# EAGLE library part ADS794* (library ic-TI)
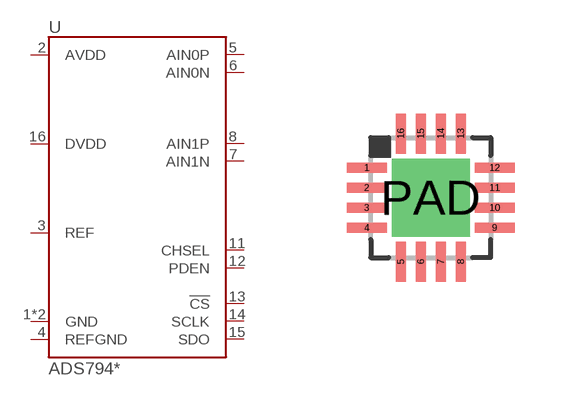
[diagram p48: symbol with the pads of QFN16-0.5; footprint QFN16-0.5]

Designator prefix U

## ADS7947 (RESOLUTION: 12), ADS7948 (RESOLUTION: 10), ADS7949 (RESOLUTION: 8)  [QFN16-0.5]
1  GND
2  AVDD
3  REF
4  REFGND
5  AIN0P
6  AIN0N
7  AIN1N
8  AIN1P
11  CHSEL
12  PDEN
13  !CS
14  SCLK
15  SDO
16  DVDD
PAD  GND

## Footprint QFN16-0.5 (pad centres in mm)
smd 1 x 0.25: 1 -1.6,0.75; 2 -1.6,0.25; 3 -1.6,-0.25; 4 -1.6,-0.75; 9 1.6,-0.75; 10 1.6,-0.25; 11 1.6,0.25; 12 1.6,0.75
smd 0.25 x 1: 5 -0.75,-1.6; 6 -0.25,-1.6; 7 0.25,-1.6; 8 0.75,-1.6; 13 0.75,1.6; 14 0.25,1.6; 15 -0.25,1.6; 16 -0.75,1.6
drill 1.3 pad 1.7 square: PAD 0,0